# EAGLE library part BUFFER_TRISTATE-2X4BIT (library CougsInSpace)
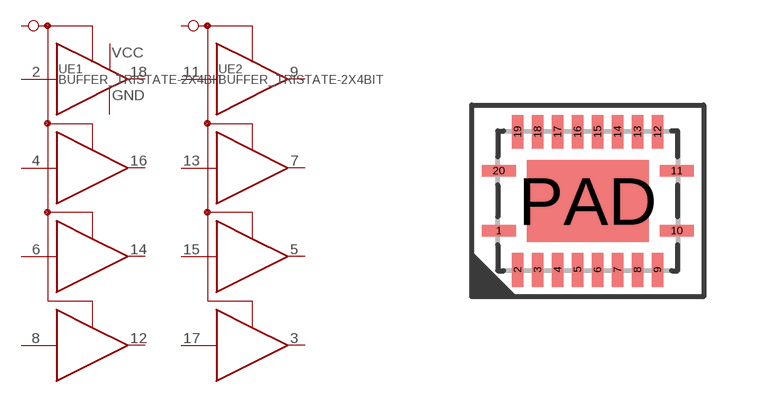
[diagram p13: symbol with the pads of QFN20-3.5X4.5; footprint QFN20-3.5X4.5]

Designator prefix U; gates E1=BUFFER-TRISTATE_4BIT_POWER E2=BUFFER-TRISTATE_4BIT

## BUFFER_TRISTATE-2X4BIT  [QFN20-3.5X4.5]
1  E1:!EN  in
2  E1:A1  in
3  E2:Y4  out
4  E1:A2  in
5  E2:Y3  out
6  E1:A3  in
7  E2:Y2  out
8  E1:A4  in
9  E2:Y1  out
10  E1:GND  pwr
11  E2:A1  in
12  E1:Y4  out
13  E2:A2  in
14  E1:Y3  out
15  E2:A3  in
16  E1:Y2  out
17  E2:A4  in
18  E1:Y1  out
19  E2:!EN  in
20  E1:VCC  pwr
PAD  E1:GND  pwr

## Footprint QFN20-3.5X4.5 (pad centres in mm)
smd 0.85 x 0.28: 1 -2.225,-0.75; 10 2.225,-0.75; 11 2.225,0.75; 20 -2.225,0.75
smd 0.28 x 0.85: 2 -1.75,-1.725; 3 -1.25,-1.725; 4 -0.75,-1.725; 5 -0.25,-1.725; 6 0.25,-1.725; 7 0.75,-1.725; 8 1.25,-1.725; 9 1.75,-1.725; 12 1.75,1.725; 13 1.25,1.725; 14 0.75,1.725; 15 0.25,1.725; 16 -0.25,1.725; 17 -0.75,1.725; 18 -1.25,1.725; 19 -1.75,1.725
smd 3.05 x 2.05: PAD 0,0